# EAGLE library part MICS-SMD06 (library con-lumberg)
CONNECTOR
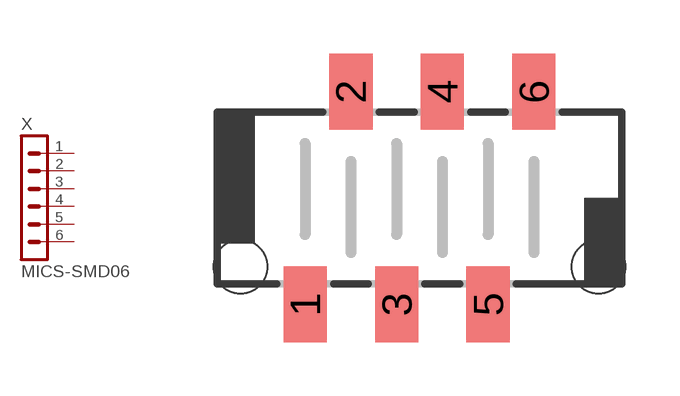
[diagram p11: symbol with the pads of MICSMD06; footprint MICSMD06]

Designator prefix X

## MICS-SMD06  [MICSMD06]
1  1  pas
2  2  pas
3  3  pas
4  4  pas
5  5  pas
6  6  pas

## Footprint MICSMD06 (pad centres in mm)
CONNECTOR
smd 1.2 x 2.1: 1 -3.175,-2.959; 2 -1.905,2.959; 3 -0.635,-2.959; 4 0.635,2.959; 5 1.905,-2.959; 6 3.175,2.959
hole 1.5 at 4.975,-1.912
hole 1.5 at -4.975,-1.912